# EAGLE library part POWERMISC_TMCS1100 (library motor_board_tmc)
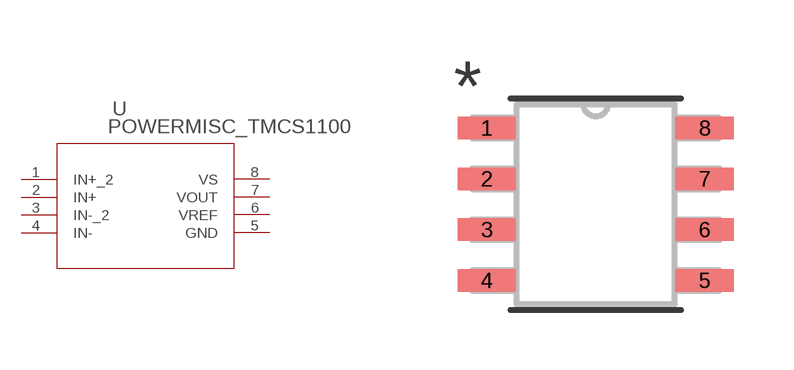
[diagram p5: symbol with the pads of POWERMISC_SOIC8_D_TEX; footprint POWERMISC_SOIC8_D_TEX]

Designator prefix U

## POWERMISC_TMCS1100 (BUILT_BY: EMA_Cory; COPYRIGHT: Copyright (C) 2018 Accelerated Designs. All rights reserved; DATASHEET: https://www.ti.com/lit/ds/symlink/tmcs1100.pdf?ts=1593546414862&ref_url=https%253A%252F%252Fwww.ti.com%252Fproduct%252FTMCS1100; MANUFACTURER_PART_NUMBER: TMCS1100A3QDR; SOURCELIBRARY: TI_2020-06-30; VENDOR: Texas Instruments)  [POWERMISC_SOIC8_D_TEX]
1  IN+_2  in
2  IN+  in
3  IN-_2  in
4  IN-  in
5  GND  pas
6  VREF  pwr
7  VOUT  out
8  VS  pwr

## Footprint POWERMISC_SOIC8_D_TEX (pad centres in mm)
smd 1.46 x 0.559: 1 -2.724,1.905; 2 -2.724,0.635; 3 -2.724,-0.635; 4 -2.724,-1.905; 5 2.724,-1.905; 6 2.724,-0.635; 7 2.724,0.635; 8 2.724,1.905